# EAGLE library part HUTSCHIENE_DEV (library hutschiene_umriss)
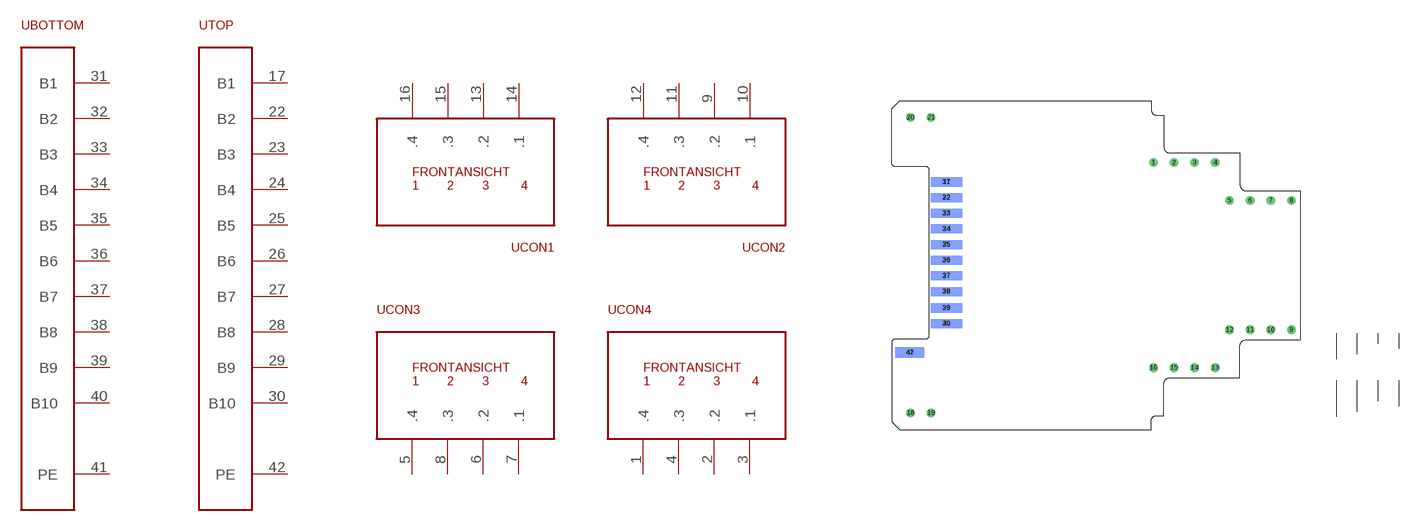
[diagram p0: symbol with the pads of HUTSCHIENE; footprint HUTSCHIENE]

Designator prefix -; gates TOP=BUSCONNECTOR BOTTOM=BUSCONNECTOR CON3=STECKER_3_4 CON4=STECKER_3_4 CON1=STECKER_1_2 CON2=STECKER_1_2

## HUTSCHIENE_DEV  [HUTSCHIENE]
1  CON4:.4
2  CON4:.2
3  CON4:.1
4  CON4:.3
5  CON3:.4
6  CON3:.2
7  CON3:.1
8  CON3:.3
9  CON2:.2
10  CON2:.1
11  CON2:.3
12  CON2:.4
13  CON1:.2
14  CON1:.1
15  CON1:.3
16  CON1:.4
17  TOP:B1
22  TOP:B2
23  TOP:B3
24  TOP:B4
25  TOP:B5
26  TOP:B6
27  TOP:B7
28  TOP:B8
29  TOP:B9
30  TOP:B10
31  BOTTOM:B1
32  BOTTOM:B2
33  BOTTOM:B3
34  BOTTOM:B4
35  BOTTOM:B5
36  BOTTOM:B6
37  BOTTOM:B7
38  BOTTOM:B8
39  BOTTOM:B9
40  BOTTOM:B10
41  BOTTOM:PE
42  TOP:PE

## Footprint HUTSCHIENE (pad centres in mm)
drill 1.4: 1 62.2,64.3; 2 67.2,64.3; 3 72.2,64.3; 4 77.2,64.3; 5 80.7,55.1; 6 85.7,55.1; 7 90.7,55.1; 8 95.7,55.1; 9 95.7,23.7; 10 90.7,23.7; 11 85.7,23.7; 12 80.7,23.7; 13 77.2,14.5; 14 72.2,14.5; 15 67.2,14.5; 16 62.2,14.5; 18 3.2,3.5; 19 8.2,3.5; 20 3.2,75.3; 21 8.2,75.3
smd 7.6 x 2.2: 17 11.9,59.6; 22 11.9,55.8; 23 11.9,52; 24 11.9,48.2; 25 11.9,44.4; 26 11.9,40.6; 27 11.9,36.8; 28 11.9,33; 29 11.9,29; 30 11.9,25.2
smd 7.6 x 2.2 bottom: 31 11.9,59.6; 32 11.9,55.8; 33 11.9,52; 34 11.9,48.2; 35 11.9,44.4; 36 11.9,40.6; 37 11.9,36.8; 38 11.9,33; 39 11.9,29; 40 11.9,25.2
smd 7 x 2.5 bottom: 41 3,18.2
smd 7 x 2.5: 42 3,18.2